# EAGLE library part ZX62D-B-5P8 (library con-hirose-microusb)
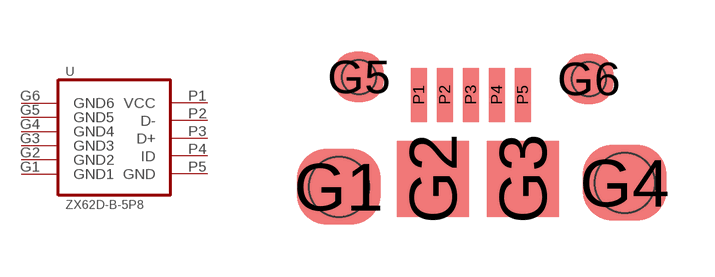
[diagram p0: symbol with the pads of ZX62D-B-5P8; footprint ZX62D-B-5P8]

Designator prefix -

## ZX62D-B-5P8  [ZX62D-B-5P8]
G1  GND1
G2  GND2
G3  GND3
G4  GND4
G5  GND5
G6  GND6
P1  VCC
P2  D-
P3  D+
P4  ID
P5  GND

## Footprint ZX62D-B-5P8 (pad centres in mm)
smd 2.1 x 1.9: G1 -3.7,-0.3; G4 3.45,-0.2
smd 1.8 x 1.9: G2 -1.35,-0.1; G3 0.9,-0.1
smd 1.25 x 1.25: G5 -3.2,2.45; G6 2.55,2.4
smd 0.4 x 1.35: P1 -1.7,2; P2 -1.05,2; P3 -0.4,2; P4 0.25,2; P5 0.9,2
hole 0.85 at -3.2,2.45
hole 0.85 at 2.55,2.4
hole 1.5 at -3.7,-0.3
hole 1.5 at 3.45,-0.2